# Altium footprint library Panasonic.PcbLib: 90 footprints (part 6 of 6)
Each footprint in its own frame and in the unit in brackets; x right, y up, seen from the top. Pads: shape width x height; smd on the part's side, far side on the other; paste and mask are expansions set on the pad; w line width, h text height; cw(c..) or ccw(c..) is an arc to the next point about the centre after c.
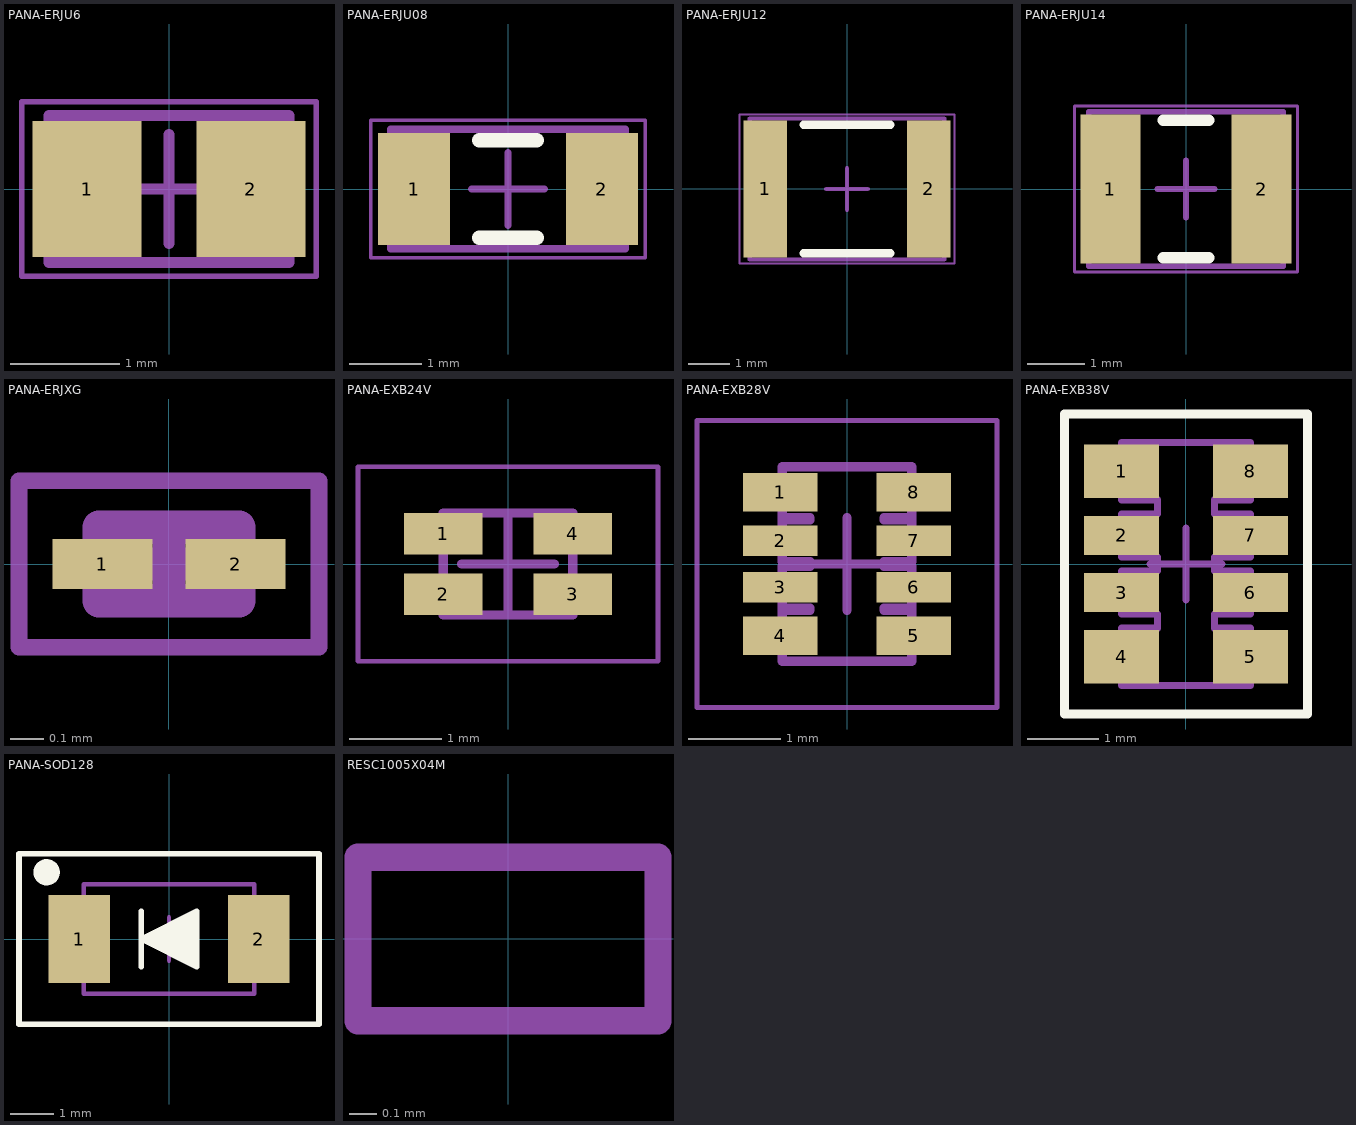
[diagram p5: the footprints below, top view; thin cyan lines are the x and y axes]

## PANA-ERJU6 [mm] "Chip Resistor, 2-Leads, Body 2.00x1.25mm, IPC High Density"
height 0.65
pads (2):
  rect 1x1.25 smd: 1(-0.75,0) 2(0.75,0)
Mechanical 13:
  lines w0.1: -1.1,-0.675 -1.1,0.675 1.1,0.675 1.1,-0.675 -1.1,-0.675
Mechanical 15:
  lines w0.05: -1.35,-0.8 -1.35,0.8 1.35,0.8 1.35,-0.8 -1.35,-0.8
  lines w0.1: -0.5,0 0.5,0 ; 0,-0.5 0,0.5
3D body: height 0.65, standoff 0, extent -0.65,-0.675 0.65,0.675
3D body: height 0.65, standoff 0, extent -1.1,-0.675 -0.65,0.675
3D body: height 0.65, standoff 0, extent 0.65,-0.675 1.1,0.675

## PANA-ERJU08 [mm] "Chip Resistor, 2-Leads, Body 3.13x1.55mm, IPC High Density"
height 0.7
pads (2):
  rect 1x1.55 smd: 1(-1.3,0) 2(1.3,0)
Top Overlay:
  lines w0.2: -0.4,-0.675 0.4,-0.675 ; -0.4,0.675 0.4,0.675
Mechanical 13:
  lines w0.1: -1.625,-0.825 -1.625,0.825 1.625,0.825 1.625,-0.825 -1.625,-0.825
Mechanical 15:
  lines w0.05: -1.9,-0.95 -1.9,0.95 1.9,0.95 1.9,-0.95 -1.9,-0.95
  lines w0.1: -0.5,0 0.5,0 ; 0,-0.5 0,0.5
3D body: height 0.7, standoff 0, extent -1.125,-0.825 1.125,0.825
3D body: height 0.7, standoff 0, extent -1.625,-0.825 -1.125,0.825
3D body: height 0.7, standoff 0, extent 1.125,-0.825 1.625,0.825

## PANA-ERJU12 [mm] "Chip Resistor, 2-Leads, Body 4.50x3.20mm, IPC High Density"
height 0.7
pads (2):
  rect 1.05x3.3 smd: 1(-1.975,0) 2(1.975,0)
Top Overlay:
  lines w0.2: -1.05,-1.55 1.05,-1.55 ; -1.05,1.55 1.05,1.55
Mechanical 13:
  lines w0.1: -2.35,-1.7 2.35,-1.7 2.35,1.7 -2.35,1.7 -2.35,-1.7
Mechanical 15:
  lines w0.05: -2.6,-1.8 2.6,-1.8 2.6,1.8 -2.6,1.8 -2.6,-1.8
  lines w0.1: -0.5,0 0.5,0 ; 0,-0.5 0,0.5
3D body: height 0.7, standoff 0, extent 1.85,-1.7 2.35,1.7
3D body: height 0.7, standoff 0, extent -2.35,-1.7 -1.85,1.7
3D body: height 0.7, standoff 0, extent -1.85,-1.7 1.85,1.7

## PANA-ERJU14 [mm] "Chip Resistor, 2-Leads, Body 3.20x2.50mm, IPC High Density"
height 0.7
pads (2):
  rect 1.05x2.6 smd: 1(-1.325,0) 2(1.325,0)
Top Overlay:
  lines w0.2: -0.4,-1.2 0.4,-1.2 ; -0.4,1.2 0.4,1.2
Mechanical 13:
  lines w0.1: -1.7,-1.35 -1.7,1.35 1.7,1.35 1.7,-1.35 -1.7,-1.35
Mechanical 15:
  lines w0.05: -1.95,-1.45 -1.95,1.45 1.95,1.45 1.95,-1.45 -1.95,-1.45
  lines w0.1: -0.5,0 0.5,0 ; 0,-0.5 0,0.5
3D body: height 0.7, standoff 0, extent -1.2,-1.35 1.2,1.35
3D body: height 0.7, standoff 0, extent -1.7,-1.35 -1.2,1.35
3D body: height 0.7, standoff 0, extent 1.2,-1.35 1.7,1.35

## PANA-ERJXG [mm] "Chip Resistor, 2-Leads, Body 0.40x0.20mm, IPC High Density"
height 0.15
pads (2):
  rect 0.3x0.15 smd: 1(-0.2,0) 2(0.2,0)
Mechanical 13:
  lines w0.1: -0.21,-0.11 -0.21,0.11 0.21,0.11 0.21,-0.11 -0.21,-0.11
Mechanical 15:
  lines w0.05: -0.45,-0.25 -0.45,0.25 0.45,0.25 0.45,-0.25 -0.45,-0.25
  lines w0.1: -0.11,0 0.11,0 ; 0,-0.11 0,0.11
3D body: height 0.15, standoff 0, extent -0.11,-0.11 0.11,0.11
3D body: height 0.15, standoff 0, extent -0.21,-0.11 -0.11,0.11
3D body: height 0.15, standoff 0, extent 0.11,-0.11 0.21,0.11

## PANA-EXB24V [mm] "Chip Array, Flat, 4-Leads, Pitch 0.65mm,  Body 1.00x1.00mm,  IPC Low Density"
height 0.45
pads (4):
  rect 0.85x0.45 smd: 1(-0.7,0.325) 2(-0.7,-0.325) 3(0.7,-0.325) 4(0.7,0.325)
Assembly Top:
  lines w0.1: -0.7,-0.55 -0.7,0.55 0.7,0.55 0.7,-0.55 -0.7,-0.55
Courtyard Top:
  lines w0.05: -1.62,-1.05 -1.62,1.05 1.62,1.05 1.62,-1.05 -1.62,-1.05
  lines w0.1: -0.5,0 0.5,0 ; 0,-0.5 0,0.5
3D body "PANA-EXB24V.step": height 0.45, standoff 0, extent -0.6,-0.55 0.6,0.55

## PANA-EXB28V [mm] "Chip Array, ConvexS, 8-Leads, Pitch 0.50mm,  Body 2.00x1.00mm,  IPC Low Density"
height 0.45
pads (8):
  rect 0.807x0.414 smd: 1(-0.721,0.775) 4(-0.721,-0.775) 5(0.721,-0.775) 8(0.721,0.775)
  rect 0.807x0.331 smd: 2(-0.721,0.25) 3(-0.721,-0.25) 6(0.721,-0.25) 7(0.721,0.25)
Mechanical 13:
  lines w0.1: -0.7,-1.05 -0.7,-0.5 -0.4,-0.5 -0.4,-0.475 -0.7,-0.475 -0.7,-0.025 -0.4,-0.025 -0.4,0.025 -0.7,0.025 -0.7,0.475 -0.4,0.475 -0.4,0.5 -0.7,0.5 -0.7,1.05 0.7,1.05 0.7,0.5 0.4,0.5 0.4,0.475 0.7,0.475 0.7,0.025 0.4,0.025 0.4,-0.025 0.7,-0.025 0.7,-0.475 0.4,-0.475 0.4,-0.5 0.7,-0.5 0.7,-1.05 -0.7,-1.05
Mechanical 15:
  lines w0.05: -1.62,-1.55 -1.62,1.55 1.62,1.55 1.62,-1.55 -1.62,-1.55
  lines w0.1: -0.5,0 0.5,0 ; 0,-0.5 0,0.5
3D body "PANA-EXB28V.step": height 0.45, standoff 0, extent -0.6,-1.05 0.6,1.05

## PANA-EXB38V [mm] "Chip Array, ConvexS, 8-Leads, Pitch 0.80mm,  Body 3.20x1.60mm,  IPC Low Density"
height 0.6
pads (8):
  rect 1.05x0.75 smd: 1(-0.9,1.3) 4(-0.9,-1.3) 5(0.9,-1.3) 8(0.9,1.3)
  rect 1.05x0.55 smd: 2(-0.9,0.4) 3(-0.9,-0.4) 6(0.9,-0.4) 7(0.9,0.4)
Top Overlay:
  lines w0.127: -1.7,-2.1 1.7,-2.1 1.7,2.1 -1.7,2.1 -1.7,-2.1
Mechanical 13:
  lines w0.1: -0.9,-1.7 -0.9,-0.9 -0.4,-0.9 -0.4,-0.7 -0.9,-0.7 -0.9,-0.1 -0.4,-0.1 -0.4,0.1 -0.9,0.1 -0.9,0.7 -0.4,0.7 -0.4,0.9 -0.9,0.9 -0.9,1.7 0.9,1.7 0.9,0.9 0.4,0.9 0.4,0.7 0.9,0.7 0.9,0.1 0.4,0.1 0.4,-0.1 0.9,-0.1 0.9,-0.7 0.4,-0.7 0.4,-0.9 0.9,-0.9 0.9,-1.7 -0.9,-1.7
Mechanical 15:
  lines w0.05: -1.7,-2.1 1.7,-2.1 1.7,2.1 -1.7,2.1 -1.7,-2.1
  lines w0.1: -0.5,0 0.5,0 ; 0,-0.5 0,0.5
3D body "PANA-EXB1206.step": height 0.6, standoff 0, extent -0.925,-1.7 0.925,1.7

## PANA-SOD128 [mm] "SODFL, 2-Leads, Body 2.40x4.70mm, IPC Low Density"
height 0.9
pads (2):
  rect 1.4x2 smd: 1(-2.05,0) 2(2.05,0)
Top Overlay:
  circle w0.3: c-2.794,1.524 r0.15
  region: 0.635,0.635 0.635,-0.635 -0.635,0
  lines w0.127: -0.635,-0.635 -0.635,0.635 ; -3.425,-1.95 -3.425,1.95 3.425,1.95 3.425,-1.95 -3.425,-1.95 ; -0.635,0 0.635,0.635 0.635,-0.635 -0.635,0
Mechanical 13:
  lines w0.1: -1.95,-1.25 1.95,-1.25 1.95,1.25 -1.95,1.25 -1.95,-1.25
Mechanical 15:
  lines w0.05: -3.425,-1.95 3.425,-1.95 3.425,1.95 -3.425,1.95 -3.425,-1.95
  lines w0.1: -0.5,0 0.5,0 ; 0,-0.5 0,0.5
3D body "PANA-SOD128.step": height 1.1, standoff -0.01, extent -2.5,-1.35 2.5,1.35

## RESC1005X04M [mm] "Chip Resistor, 2-Leads, Body 1.00x0.53mm, IPC Low Density"
height 0.4
Assembly Top:
  lines w0.1: -0.55,-0.3 0.55,-0.3 0.55,0.3 -0.55,0.3 -0.55,-0.3
3D body "RESC1005X04M.step": height 0.4, standoff 0, extent -0.55,-0.3 0.55,0.3